# Altium schematic symbol library UCLA-DRS4.SCHLIB: 141 symbols (part 2 of 2)
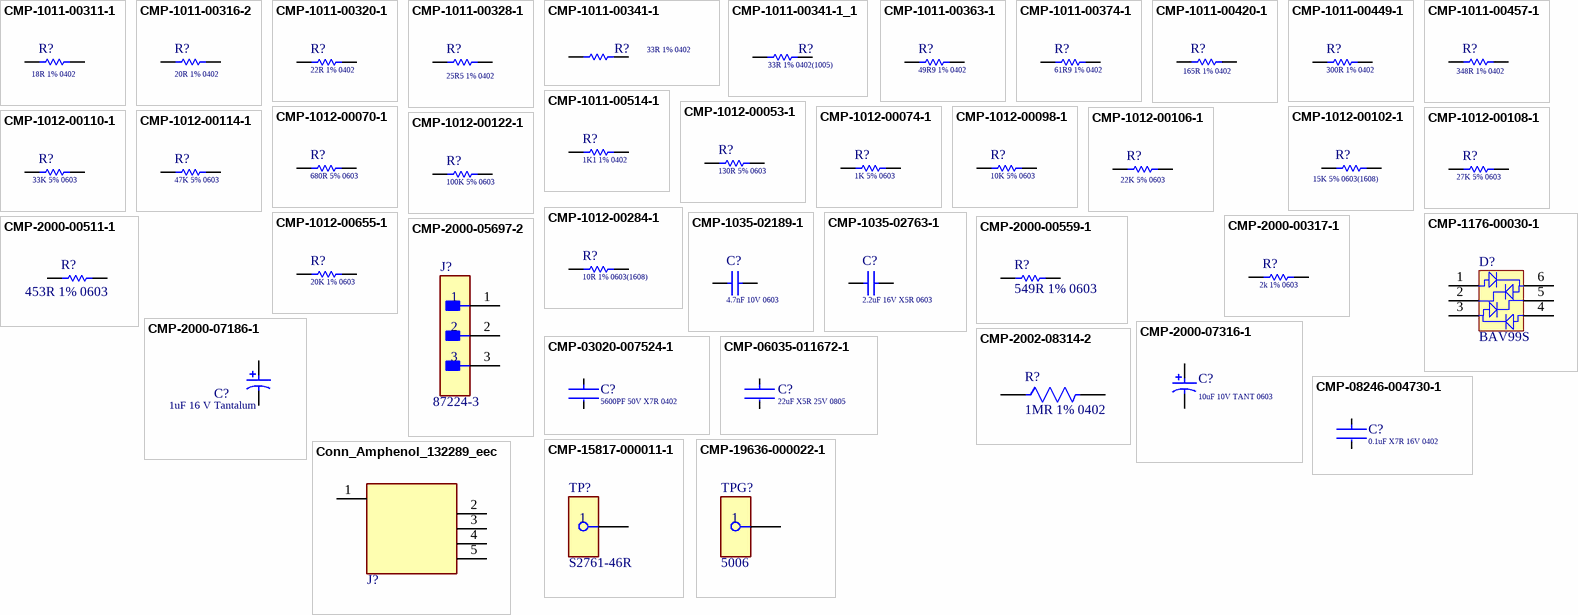
[diagram p6: symbols CMP-1011-00311-1 to Conn_Amphenol_132289_eec]

## CMP-2000-05697-2
designator J?, comment 87224-3
CONN HEADER VERT 3POS 2.54MM; Manufacturer: TE Connectivity; Number of Positions: 3; Gasket: No (Without); High Speed Serial Data Connector: No; Current Rating: 3A; Contact Post Length: 0.125inch; PCB Thickness: 1.397mm; PCB Mount Retention: Without; Connector Type: Plug; Approvals: CSA; PCB Mounting Orientation: Vertical; Pitch: 2.54mm; Mating Alignment: No (Without); Housing Color: Black; Contact Gender: Male; Length: 7.21mm; Max Operating Temperature: 105°C; Strain Relief: No (Without); Contact Material: Bronze; Row Spacing: 2.54mm; Series: AMPMODU MOD II; Board Standoff: No (Without); Package Quantity: 520; Radiation Hardening: No; Contact Protection: No (Without); Stabilizers: No (Without); Number of Rows: 1; Contact Mating Length: 8.08mm; Contact Shape: Square; Depth: 2.54mm; Contact Current Rating: 3A; Flammability Rating: UL94 V-0; Packaging: Carton; Number of Contacts: 3; Orientation: Straight; Mount: Through Hole; Keyed: No; Contact Type: Male Pin; Housing Material: Thermoplastic; High Temperature Housing: No; ELV: Compliant; Contact Plating: Gold; Termination: Through Hole; Selectively Loaded: No (Without); Lead Free: Lead Free; Min Operating Temperature: -65°C; Mating Connector Lock: No (Without); Color: Black; RoHS Compliant: Yes; Manufacturer Part Number: 87224-3
footprint FP-87224-3-MFG
pins: 1, 2, 3

## CMP-2000-07186-1
designator C?, comment 1uF 16 V Tantalum
Tantalun Capacitor, 1 uF, +/- 10%, 16 V, -55 to 125 degC, 2-Pin SMD, RoHS, Tape and Reel; Manufacturer: Kemet; Manufacturer Size Code: A; Manufacturer Part Number: T491A105K016AT; Type: Molded; Online Catalog: T491Series; Lifetime @ Temp.: 2000Hrs@85°C; Catalog Drawings: T49x,T5xxSeries_A-side1T49x,T5xxSeries_A,B-side2T49x,T5xxSeries_A,SBottom; Other Names: 399-3678-6; EDA / CAD Models: DownloadfromAcceleratedDesigns; Capacitance: 1.0µF; ESR (Equivalent Series Resistance): 10Ohm; Voltage - Rated: 16V; Product Training Modules: CapacitorBasics-TypicalUsesforCapacitorsDeratingGuidelinesforSurfaceMountTantalumCapacitors; Category: Capacitors; Lead Spacing: -; Package Description: 2-Pin Surface Mounted Device, Body 3.2 x 1.6 mm; Height - Seated (Max): 0.071"(1.80mm); Mounting Technology: SurfaceMount; Mounting Type: SurfaceMount; Standard Package: 1; Tolerance: ±10%; Datasheet Version: 06/2016; Manufacturer URL: http://www.kemet.com/; Packaging: Digi-Reel®; Family: TantalumCapacitors; Series: T491; Size / Dimension: 0.126"Lx0.063"W(3.20mmx1.60mm); Package / Case: 1206(3216Metric); Datasheet URL: http://capacitoredge.kemet.com/capedge2/DataSheet/Datasheet-T491A105K016AT.pdf?pn=T491A105K016AT; Operating Temperature: -55°C~125°C; Package Reference: 1206; Features: GeneralPurpose; Manufacturer: KEMET
footprint KEMT-T491A105K016AT_L (Molded Capacitor, 2-Leads, Body 3.40x1.80mm, IPC High Density)
footprint KEMT-T491A105K016AT_M (Molded Capacitor, 2-Leads, Body 3.40x1.80mm, IPC Low Density)
footprint KEMT-T491A105K016AT_N (Molded Capacitor, 2-Leads, Body 3.40x1.80mm, IPC Medium Density)
pins: 1, 2

## CMP-2000-07316-1
designator C?, comment 10uF 10V TANT 0603
Tantalum Capacitor, 10 uF, +/- 20%, 10 V, -55 to 125 degC, 2-Pin SMD (M), RoHS, Tape and Reel; Manufacturer: Vishay; Manufacturer Part Number: TR8M106M010C2000; Manufacturer: Vishay Sprague; Capacitance: 10µF; Featured Product: TR8SeriesMoldedMicroTan™TantalumChipCapacitors; ESR (Equivalent Series Resistance): 2Ohm; Other Names: 718-1673-6; Catalog Drawings: TR8SeriesTR8SeriesBottom; Online Catalog: MICROTAN®TR8Series; Type: Molded; Mounting Technology: SurfaceMount; Category: Capacitors; Lifetime @ Temp.: -; Package Reference: TR8-M; Size / Dimension: 0.063"Lx0.033"W(1.60mmx0.85mm); Operating Temperature: -55°C~125°C; Mounting Type: SurfaceMount; Lead Spacing: -; Tolerance: ±20%; Standard Package: 1; Datasheet URL: http://www.vishay.com/docs/40114/tr8.pdf; Package Description: 2-Pin Surface Mount Device, Body 1.6 x 0.85 mm; Height - Seated (Max): 0.035"(0.89mm); Family: TantalumCapacitors; Manufacturer Size Code: M; Voltage - Rated: 10V; Series: MICROTAN®TR8; Packaging: Digi-Reel®; Manufacturer URL: http://www.vishay.com/; Datasheet Version: 03/2016; Package / Case: 0603(1608Metric); Features: GeneralPurpose
footprint VISH-TR8-M_L (Molded Capacitor, 2-Leads, Body 1.8x1.05mm, IPC High Density)
footprint VISH-TR8-M_M (Molded Capacitor, 2-Leads, Body 1.8x1.05mm, IPC Low Density)
footprint VISH-TR8-M_N (Molded Capacitor, 2-Leads, Body 1.8x1.05mm, IPC Medium Density)
pins: 1, 2

## CMP-2002-08314-2
designator R?, comment Parameter: 1MR 1% 0402  (hidden comment: CRCW04021M00FKED)  (no BOM)
RES Thick Film, 1MΩ, 1%, 0.063W, 100ppm/°C, 0402; Manufacturer: Vishay; Power Rating: 63mW; Voltage Rating (DC): 50V; Resistance: 1MR; Min Operating Temperature: -55°C; Lead Free: Lead Free; Case Code (Imperial): 0402; Packaging: Tape and Reel; Case Code (Metric): 1005; Tolerance: 1%; Number of Terminations: 2; Features: Automotive AEC-Q200; Number of Pins: 2; Max Power Dissipation: 63mW; Height: 0.35mm; Weight: 2.3E-05oz; Package Quantity: 10; Contact Plating: Tin; Temperature Coefficient: 100ppm/°C; Radiation Hardening: No; Length: 1mm; Termination: SMD/SMT; Depth: 0.5mm; Case/Package: 0402; Voltage Rating: 50V; Composition: Thick Film; Width: 0.02inch; Max Operating Temperature: 155°C; Military Standard: Not; Manufacturer Part Number: CRCW04021M00FKED
footprint FP-CRCW0402-e3-MFG
footprint FP-CRCW0402-e3-IPC_C
footprint FP-CRCW0402-e3-IPC_B
footprint FP-CRCW0402-e3-IPC_A
pins: 1, 2

## CMP-03020-007524-1
designator C?, comment 5600PF 50V X7R 0402
CAP CER 5600PF 50V X7R 0402 / C0402C562K5RACTU; Manufacturer: Kemet; Temperature Coefficient: 15%; Tolerance: 0.1; Material: Ceramic; Value: 5,600 pF; Temperature Characteristic: X7R; Device Class L3: Ceramic Capacitors; Height: 0.55mm; Temperature: -55°C to +125°C; Package: C0402-BB; Category: Cap; ComponentLink2Description: Datasheet; Device Class L2: Capacitors; Automotive: No; Device Class L1: Passive Components; Lead Free: Yes; ComponentLink2URL: https://content.kemet.com/datasheets/KEM_C1002_X7R_SMD.pdf; Digikey Description: CAP CER 5600PF 50V X7R 0402; Temperature Range High: +125°C; RoHS: TRUE; Octopart: https://octopart.com/c0402c562k5ractu-kemet-98458; Temperature Range Low: -55°C; Ipc Land Pattern Name: CAPC10050X50; Voltage Rating: 50 V; Mouser Description: Multilayer Ceramic Capacitors MLCC - SMD/SMT 50volts 5600pF X7R 10%; Manufacturer Part Number: C0402C562K5RACTU; Capacitance: 5,600 pF
footprint FP-C0402-BB-MFG
footprint FP-C0402-BB-IPC_C
footprint FP-C0402-BB-IPC_B
footprint FP-C0402-BB-IPC_A
pins: 1, 2

## CMP-06035-011672-1
designator C?, comment Parameter: 22uF X5R 25V 0805  (hidden comment: GRT21BR61E226ME13L)
Multi-Layer Ceramic Capacitor 22uF 25V X5R ±20% 0805 Emboss T/R; Manufacturer: Murata; Mount: Surface Mount; Case/Package: 0805; Min Operating Temperature: -55°C; Thickness: 0.057inch; Max Operating Temperature: 85°C; Case Code (Imperial): 0805; Voltage Rating: 25V; Length: 0.079inch; Ratings: AEC-Q200; Case Code (Metric): 2012; Capacitance: 22uF; Width: 0.049inch; Packaging: Tape and Reel; Tolerance: 20%; Manufacturer Part Number: GRT21BR61E226ME13L
footprint FP-GRT21B-0_2-IPC_C
footprint FP-GRT21B-0_2-IPC_B
footprint FP-GRT21B-0_2-MFG
footprint FP-GRT21B-0_2-IPC_A
pins: 1, 2

## CMP-08246-004730-1
designator C?, comment Capacitance: 0.1uF X7R 16V 0402  (hidden comment: CGA2B1X7R1C104K050BC)
Cap Ceramic 100nF 16V X7R 10% Pad SMD 0402 +125°C Automotive T/R; Manufacturer: TDK; Weight: 2.3E-05oz; Thickness: 0.022inch; Length: 1mm; Max Operating Temperature: 125°C; RoHS Compliant: Yes; Voltage Rating: 16V; Voltage Rating (DC): 16V; Series: CGA; Case Code (Metric): 1005; Termination: SMD/SMT; Case/Package: 0402; Tolerance: 10%; Min Operating Temperature: -55°C; Dielectric: X7R; Mount: Surface Mount; Resistor Type: Ceramic; Height: 0.5mm; Depth: 0.5mm; Packaging: Tape and Reel; REACH SVHC: No SVHC; Lead Free: Lead Free; Case Code (Imperial): 0402; Width: 0.5mm; Package Quantity: 1; Ratings: AEC-Q200; Manufacturer Part Number: CGA2B1X7R1C104K050BC
footprint FP-CGA2B-IPC_C
footprint FP-CGA2B-IPC_B
footprint FP-CGA2B-IPC_A
footprint FP-CGA2B-MFG
pins: 1, 2

## CMP-15817-000011-1
designator TP?, comment S2761-46R
PC TEST POINT NATURAL; Manufacturer: Harwin; Body Material: Brass; Plating: Tin; Material: Copper Alloy; Mount: Surface Mount; Color: Natural; Packaging: Tape and Reel; RoHS Compliant: Yes; Manufacturer Part Number: S2761-46R
footprint FP-S2761-46R-MFG
pins: 1

## CMP-19636-000022-1
designator TPG?, comment 5006
PC TEST POINT COMPACT BLACK; Manufacturer: Keystone Electronics; Body Material: Bronze; Inside Diameter: 1.78mm; Number of Ports: 1; Hole Diameter: 1.6mm; Outside Diameter: 3.18mm; Plating: Silver; Contact Plating: Tin; Color: Black; RoHS Compliant: Yes; Flammability Rating: UL94 V-0; Contact Material: Bronze; Material: Nylon; Orientation: Straight; Package Quantity: 100; Housing Color: Black; Length: 8.89mm; Series: THM; Mount: PCB; Height: 0.35inch; Packaging: Bulk; REACH SVHC: No SVHC; Insulation Material: Nylon; Lead Free: Lead Free; Manufacturer Part Number: 5006
footprint FP-5006-MFG
pins: 1

## Conn_Amphenol_132289_eec
designator J?, comment SMA JACK 50 OHM  (value not drawn)
CONN SMA JACK 50 OHM EDGE MNT; Manufacturer: Amphenol; Part Number: 132289; helpURL: https://upverter.com/upn/revision/b04227f5d74ab481/; ComponentLink2Description: Datasheet; Temperature: -65°C to +165°C; Package: CONN_SMA_9MM52_7M92; Supplier 2: Mouser; Price: 4.87219999201; Supplier 1: Digi-Key; ComponentLink1URL: https://upverter.com/upn/revision/b04227f5d74ab481/; Supplier Part Number 2: 523-132289; Supplier Part Number 1: ACX1426-ND; ComponentLink1Description: Upverter; ComponentLink2URL: http://www.amphenolrf.com/downloads/dl/file/id/2775/product/2917/132289_customer_drawing.pdf; RoHS: TRUE; Mouser Part Number: 523-132289; Digikey Description: CONN SMA JACK 50 OHM EDGE MNT; Digikey Part Number: ACX1426-ND; Lead Free: yes; Temperature Range Low: -65°C; Temperature Range High: +165°C
footprint Amphenol_132289_0
pins: 1, 2 MNT 1, 3 MNT 2, 4 MNT 3, 5 MNT 4

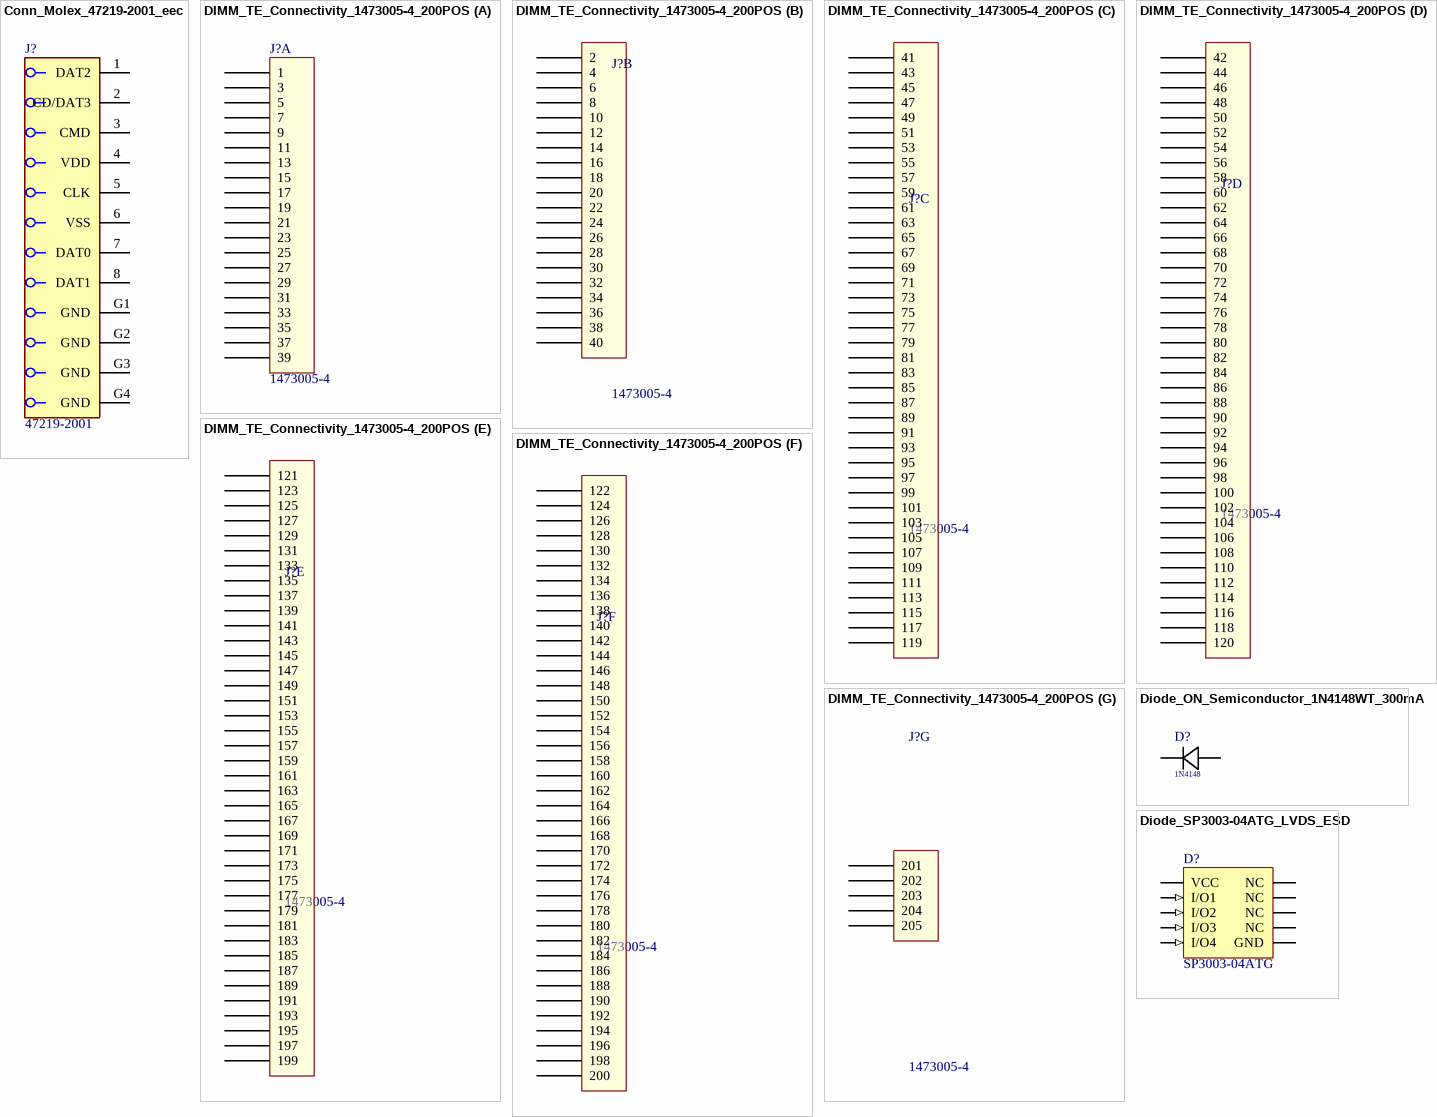
[diagram p2: symbols Conn_Molex_47219-2001_eec to Diode_SP3003-04ATG_LVDS_ESD]

## Conn_Molex_47219-2001_eec
designator J?  Part Number: 47219-2001  (hidden comment: Conn_Molex_47219-2001_eec)
CONN MICRO SD CARD HINGED TYPE; Manufacturer: Molex; Is Female: yes; helpURL: https://upverter.com/upn/revision/cf639670a30b6b80/; ComponentLink2Description: Datasheet; Temperature: -20°C to +85°C; Package: SMT_SDCARD_14MM5_13MM6; Supplier 2: Mouser; Supplier 1: Digi-Key; ComponentLink1URL: https://upverter.com/upn/revision/cf639670a30b6b80/; Supplier Part Number 2: 538-47219-2001; Supplier Part Number 1: WM6698CT-ND; ComponentLink1Description: Upverter; ComponentLink2URL: http://www.molex.com/pdm_docs/sd/472192001_sd.pdf; RoHS: TRUE; Mouser Part Number: 538-47219-2001; Temperature Range High: +85°C; Digikey Description: CONN MICRO SD CARD HINGED TYPE; Digikey Part Number: WM6698CT-ND; Lead Free: yes; Temperature Range Low: -20°C
footprint Molex_47219-2001_0
pins: 1 DAT2, 2 CD/DAT3, 3 CMD, 4 VDD (power), 5 CLK, 6 VSS (power), 7 DAT0, 8 DAT1, G1 GND (power), G2 GND (power), G3 GND (power), G4 GND (power)

## DIMM_TE_Connectivity_1473005-4_200POS
designator J?  Series: 1473005-4  (hidden comment: DIMM_TE_Connectivity_1473005-4_200POS)
DIMM Connectors DDR2 SODIMM 200P STANDARD HOUSING; Supplier 1: Mouser; Supplier Part Number 1: 571-1473005-4
footprint DIMM_TE_Connectivity_1473005-4_200POS
part A pins: 1, 3, 5, 7, 9, 11, 13, 15, 17, 19, 21, 23, 25, 27, 29, 31, 33, 35, 37, 39
part B pins: 2, 4, 6, 8, 10, 12, 14, 16, 18, 20, 22, 24, 26, 28, 30, 32, 34, 36, 38, 40
part C pins: 41, 43, 45, 47, 49, 51, 53, 55, 57, 59, 61, 63, 65, 67, 69, 71, 73, 75, 77, 79, 81, 83, 85, 87, 89, 91, 93, 95, 97, 99, 101, 103, 105, 107, 109, 111, 113, 115, 117, 119
part D pins: 42, 44, 46, 48, 50, 52, 54, 56, 58, 60, 62, 64, 66, 68, 70, 72, 74, 76, 78, 80, 82, 84, 86, 88, 90, 92, 94, 96, 98, 100, 102, 104, 106, 108, 110, 112, 114, 116, 118, 120
part E pins: 121, 123, 125, 127, 129, 131, 133, 135, 137, 139, 141, 143, 145, 147, 149, 151, 153, 155, 157, 159, 161, 163, 165, 167, 169, 171, 173, 175, 177, 179, 181, 183, 185, 187, 189, 191, 193, 195, 197, 199
part F pins: 122, 124, 126, 128, 130, 132, 134, 136, 138, 140, 142, 144, 146, 148, 150, 152, 154, 156, 158, 160, 162, 164, 166, 168, 170, 172, 174, 176, 178, 180, 182, 184, 186, 188, 190, 192, 194, 196, 198, 200
part G pins: 201, 202, 203, 204, 205

## Diode_ON_Semiconductor_1N4148WT_300mA
designator D?  Series: 1N4148  (hidden comment: Diode_ON_Semiconductor_1N4148WT_300mA)
Diodes - General Purpose, Power, Switching SINGLE JUNC. 75V 4.0NS COMP; Supplier 1: Mouser; Supplier Part Number 1: 512-1N4148WT
footprint Diode_ON_Semiconductor_1N4148WT_300mA
pins: 1, 2

## Diode_SP3003-04ATG_LVDS_ESD
designator D?  Series: SP3003-04ATG  (hidden comment: Diode_SP3003-04ATG_LVDS_ESD)
ESD Suppressors / TVS Diodes 4 Ch 8kV 0.65pF SPA; Supplier 1: Mouser; Supplier Part Number 1: 576-SP3003-04ATG
footprint Diode_SP3003-04ATG_LVDS_ESD
pins: 1 I/O1 (in), 2 I/O2 (in), 3 VCC, 4 I/O3 (in), 5 I/O4 (in), 6 NC (hiz), 7 NC (hiz), 8 GND (power), 9 NC (hiz), 10 NC (hiz)

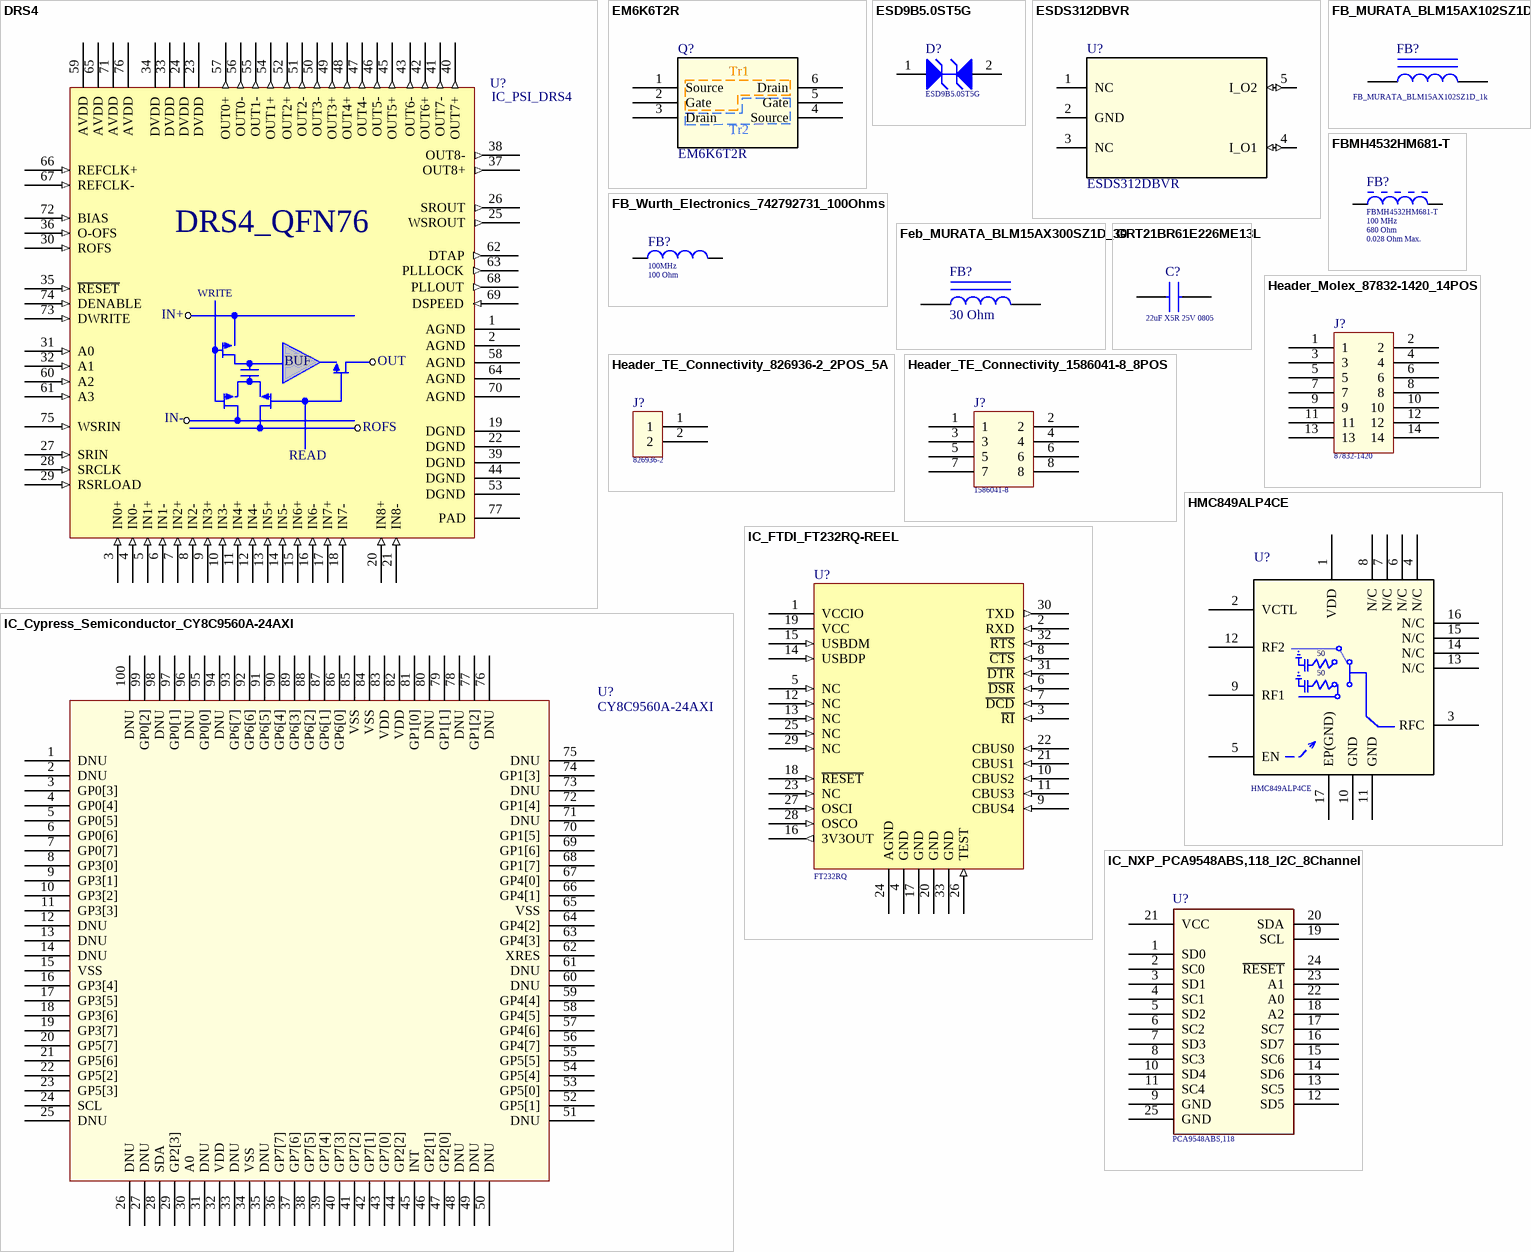
[diagram p3: symbols DRS4 to IC_NXP_PCA9548ABS,118_I2C_8Channel]

## DRS4
designator U?, comment IC_PSI_DRS4
DRS4 QFN76 DAQ Chip; Series: DRS4
footprint DRS4 (QFN, 76-Leads, Body 9.00x9.00mm, Pitch 0.40mm, Thermal Pad 5.50x5.50mm, IPC Medium Density)
pins: 1 AGND, 2 AGND, 3 IN0+ (in), 4 IN0- (in), 5 IN1+ (in), 6 IN1- (in), 7 IN2+ (in), 8 IN2- (in), 9 IN3+ (in), 10 IN3- (in), 11 IN4+ (in), 12 IN4- (in), 13 IN5+ (in), 14 IN5- (in), 15 IN6+ (in), 16 IN6- (in), 17 IN7+ (in), 18 IN7- (in), 19 DGND, 20 IN8+ (in), 21 IN8- (in), 22 DGND, 23 DVDD (power), 24 DVDD (power), 25 WSROUT (out), 26 SROUT (out), 27 SRIN (in), 28 SRCLK (in), 29 RSRLOAD (in), 30 ROFS (in), 31 A0 (in), 32 A1 (in), 33 DVDD (power), 34 DVDD (power), 35 ~{RESET} (in), 36 O-OFS (in), 37 OUT8+ (out), 38 OUT8- (out), 39 DGND, 40 OUT7+ (out), 41 OUT7- (out), 42 OUT6+ (out), 43 OUT6- (out), 44 DGND, 45 OUT5+ (out), 46 OUT5- (out), 47 OUT4- (out), 48 OUT4+ (out), 49 OUT3+ (out), 50 OUT3- (out), 51 OUT2- (out), 52 OUT2+ (out), 53 DGND, 54 OUT1+ (out), 55 OUT1- (out), 56 OUT0- (out), 57 OUT0+ (out), 58 AGND, 59 AVDD (power), 60 A2 (in), 61 A3 (in), 62 DTAP (out), 63 PLLLOCK (out), 64 AGND, 65 AVDD (power), 66 REFCLK+ (in), 67 REFCLK- (in), 68 PLLOUT (out), 69 DSPEED (in), 70 AGND, 71 AVDD (power), 72 BIAS (in), 73 DWRITE (in), 74 DENABLE (in), 75 WSRIN (in), 76 AVDD (power), 77 PAD
text: DRS4_QFN76; WRITE; IN+; BUF; OUT; IN-; READ

## EM6K6T2R
designator Q?
MOSFET Small Signal Dual N-CH 20V .3A .15W; Vendor: ROHM Semiconductor; Manufacturer_Part_Number: EM6K6T2R
footprint TRANS_EM6_ROM
pins: 1 Source, 2 Gate, 3 Drain, 4 Source, 5 Gate, 6 Drain
text: Tr1; Tr2

## ESD9B5.0ST5G
designator D?
Transient Voltage Suppressor, Micro-Packaged Diode for ESD Protection, 2-Pin SOD-923, Pb-Free, Tape and Reel; Manufacturer: On Semiconductor; Direction: Bidirectional; VRWM Max (V): 5; V(BR) Min (V): 5.8; IR Max (uA): 1; ComponentLink1Description: Manufacturer URL; ComponentLink2Description: Datasheet; PartNumber: ESD9B5.0ST5G; ComponentLink3Description: Package Specification; PackageDescription: 2-Pin SOD, Body 0.8 x 0.6 mm; ComponentLink3URL: http://www.onsemi.com/pub_link/Collateral/514AB.PDF; DatasheetVersion: Rev. 2; ComponentLink1URL: http://www.onsemi.com/; PackageReference: SOD-923-2-514AB-01; Packing: Tape and Reel; PackageVersion: Rev. C, 03/2011; Mounting Technology: Surface Mount; Number of Lines: 1; ComponentLink2URL: http://www.onsemi.cn/pub_link/Collateral/ESD9B-D.PDF; RoHS: Pb-Free; Supplier 1: Mouser; Supplier Part Number 1: 863-ESD9B5.0ST5G
footprint ONSC-SOD-923-2-514AB-01_V
pins: 1 A1, 2 A2

## ESDS312DBVR
designator U?
3.6V Data-Line Surge and 30kV ESD Protection Diode; Manufacturer: Texas Instruments; PartNumber: ESDS312DBVR; RefDes: RefDes; Type: DEV; Value: Value
footprint DBV0005A_L (SOT23, 5-Leads, Body 3.05x1.75mm, Pitch 0.95mm, IPC High Density)
pins: 1 NC, 2 GND (power), 3 NC, 4 I_O1 (io), 5 I_O2 (io)

## FB_MURATA_BLM15AX102SZ1D_1k
designator FB?
FB SMD 1000 OHM 25% 3/4W 0402; Supplier Part Number 1: 81-BLM15AX102SZ1D; Supplier 1: Mouser
footprint FB_MURATA_BLM15AX102SZ1D_1k (Feb SMD 1000 OHM 25% 3/4W 0402)
pins: 1, 2

## FB_Wurth_Electronics_742792731_100Ohms
designator FB?, comment Measuring Frequency: 100MHz  Impedance: 100 Ohm  (hidden comment: 742792731)
FB SMD 100 OHM 25% 1.2A 0402; DC Resistance: 90mOhm; Supplier 1: Mouser; Supplier Part Number 1: 710-742792731
footprint FB_Wurth_Electronics_742792731_100Ohms
pins: 1, 2

## FBMH4532HM681-T
designator FB?  Measuring Frequency: 100 MHz  Nominal Impedance: 680 Ohm  DC Resistance: 0.028 Ohm Max.  (hidden comment: FBMH4532HM681-T)
Chip Bead Inductor for Power Lines, 680 Ohm, 4 A, -40 to 125 degC, 2-Pin 4.5 x 3.2 x 3.5 mm SMD, RoHS, Taping; Manufacturer: Taiyo Yuden; Rated Current: 4 A Max.; Impedance Tolerance: +/- 25%; ComponentLink1Description: Manufacturer URL; ComponentLink2Description: Datasheet; DatasheetVersion: 09/2014; ComponentLink3URL: http://www.yuden.co.jp/productdata/catalog/en/chipbeads01_e.pdf; ComponentLink3Description: Package Specification; ComponentLink1URL: http://www.t-yuden.com/; Mounting Technology: Surface Mount; Packing: Taping; Temperature Range: -40 to 125 degC; PackageDescription: 2-Pin Surface Mount Device, Body 4.5 x 3.2 mm, Height 3.5 mm; ComponentLink2URL: http://www.yuden.co.jp/productdata/catalog/en/chipbeads01_e.pdf; RoHS: TRUE; Supplier 1: Digi-Key; Supplier Part Number 1: 587-1761-6-ND; PartNumber: FBMH4532HM681-T
footprint TAYO-FBMH4532-2_V
pins: 1 (power), 2 (power)

## Feb_MURATA_BLM15AX300SZ1D_30
designator FB?, comment 30 Ohm
Feb SMD 30 OHM 25% 3/4W 0402; Supplier 1: Mouser; Supplier Part Number 1: 81-BLM15AX300SZ1D
footprint Feb_MURATA_BLM15AX300SZ1D_30
pins: 1, 2

## GRT21BR61E226ME13L
designator C?  Parameter: 22uF X5R 25V 0805  (hidden comment: GRT21BR61E226ME13L)
Capacitor; Manufacturer_Name: Murata Electronics; Datasheet Link: https://psearch.en.murata.com/capacitor/product/GRT21BR61E226ME13%23.html; Height: 1.35mm; Manufacturer_Part_Number: GRT21BR61E226ME13L; Mouser Part Number: 81-GRT21BR61E226ME3L; Mouser Price/Stock: https://www.mouser.co.uk/ProductDetail/Murata-Electronics/GRT21BR61E226ME13L?qs=drgMNd%252BkGPNuWqerICGuZg%3D%3D; Arrow Part Number: GRT21BR61E226ME13L; Arrow Price/Stock: https://www.arrow.com/en/products/grt21br61e226me13l/murata-manufacturing
footprint CAPC2012X135N
pins: 1, 2

## Header_Molex_87832-1420_14POS
designator J?  Series: 87832-1420  (hidden comment: Header_Molex_87832-1420_14POS)
Headers & Wire Housings 14P SMD PB FREE SHRD; Supplier Part Number 1: 538-87832-1420; Supplier 1: Mouser
footprint Header_Molex_87832-1420_14POS
pins: 1, 2, 3, 4, 5, 6, 7, 8, 9, 10, 11, 12, 13, 14

## Header_TE_Connectivity_826936-2_2POS_5A
designator J?  Series: 826936-2  (hidden comment: Header_TE_Connectivity_826936-2_2POS_5A)
Headers & Wire Housings 2P SINGLE ROW 5A; Supplier Part Number 1: 571-826936-2; Supplier 1: Mouser
footprint Header_TE_Connectivity_826936-2_2POS_5A
pins: 1, 2

## Header_TE_Connectivity_1586041-8_8POS
designator J?  Series: 1586041-8  (hidden comment: Header_TE_Connectivity_1586041-8_8POS)
Headers & Wire Housings RA HDR W/O PEGS 8P; Supplier Part Number 1: 571-15860418; Supplier 1: Mouser
footprint Header_TE_Connectivity_1586041-8_8POS
pins: 1 (power), 2, 3 (power), 4, 5 (power), 6, 7 (power), 8

## HMC849ALP4CE
designator U?, comment Series: HMC849ALP4CE  (hidden comment: HMC849)
RF Switch ICs DC-6 GHZ Hi Isolation Switch; Vendor: Analog Devices Inc; Built_By: Analog Devices Imc.; Manufacturer_Part_Number: HMC849ALP4CE; RefDes: RefDes; Type: DEV; Supplier 1: Mouser; Supplier Part Number 1: 584-HMC849ALP4CE
footprint CP_16_40
pins: 1 VDD, 2 VCTL, 3 RFC, 4 N/C, 5 EN, 6 N/C, 7 N/C, 8 N/C, 9 RF1, 10 GND, 11 GND, 12 RF2, 13 N/C, 14 N/C, 15 N/C, 16 N/C, 17 EP(GND)
text: 50

## IC_Cypress_Semiconductor_CY8C9560A-24AXI
designator U?  Series: CY8C9560A-24AXI  (hidden comment: IC_Cypress_Semiconductor_CY8C9560A-24AXI)
Interface - I/O Expanders 60BIT IO EXPANDER W/EEPROM; Supplier 1: Mouser; Supplier Part Number 1: 727-CY8C9560A-24AXI
footprint IC_Cypress_Semiconductor_CY8C9560A-24AXI (Interface - I/O Expanders 60BIT IO EXPANDER W/EEPROM)
pins: 1 DNU, 2 DNU, 3 GP0[3], 4 GP0[4], 5 GP0[5], 6 GP0[6], 7 GP0[7], 8 GP3[0], 9 GP3[1], 10 GP3[2], 11 GP3[3], 12 DNU, 13 DNU, 14 DNU, 15 VSS, 16 GP3[4], 17 GP3[5], 18 GP3[6], 19 GP3[7], 20 GP5[7], 21 GP5[6], 22 GP5[2], 23 GP5[3], 24 SCL, 25 DNU, 26 DNU, 27 DNU, 28 SDA, 29 GP2[3], 30 A0, 31 DNU, 32 VDD, 33 DNU, 34 VSS, 35 DNU, 36 GP7[7], 37 GP7[6], 38 GP7[5], 39 GP7[4], 40 GP7[3], 41 GP7[2], 42 GP7[1], 43 GP7[0], 44 GP2[2], 45 INT, 46 GP2[1], 47 GP2[0], 48 DNU, 49 DNU, 50 DNU, 51 DNU, 52 GP5[1], 53 GP5[0], 54 GP5[4], 55 GP5[5], 56 GP4[7], 57 GP4[6], 58 GP4[5], 59 GP4[4], 60 DNU, 61 DNU, 62 XRES, 63 GP4[3], 64 GP4[2], 65 VSS, 66 GP4[1], 67 GP4[0], 68 GP1[7], 69 GP1[6], 70 GP1[5], 71 DNU, 72 GP1[4], 73 DNU, 74 GP1[3], 75 DNU, 76 DNU, 77 GP1[2], 78 DNU, 79 GP1[1], 80 DNU, 81 GP1[0], 82 VDD, 83 VDD, 84 VSS, 85 VSS, 86 GP6[0], 87 GP6[1], 88 GP6[2], 89 GP6[3], 90 GP6[4], 91 GP6[5], 92 GP6[6], 93 GP6[7], 94 DNU, 95 GP0[0], 96 DNU, 97 GP0[1], 98 DNU, 99 GP0[2], 100 DNU

## IC_FTDI_FT232RQ-REEL
designator U?  Series: FT232RQ  (hidden comment: IC_FTDI_FT232RQ-REEL)
USB Interface IC USB to Serial UART Enhanced IC QFN-32; Supplier 1: Mouser; Supplier Part Number 1: 895-FT232RQ
footprint IC_FTDI_FT232RQ-REEL
pins: 1 VCCIO (power), 2 RXD (in), 3 ~{RI} (in), 4 GND (power), 5 NC (in), 6 ~{DSR} (in), 7 ~{DCD} (in), 8 ~{CTS} (in), 9 CBUS4 (in), 10 CBUS2 (in), 11 CBUS3 (in), 12 NC (in), 13 NC (in), 14 USBDP (in), 15 USBDM (in), 16 3V3OUT (out), 17 GND (power), 18 ~{RESET} (in), 19 VCC (power), 20 GND (power), 21 CBUS1 (in), 22 CBUS0 (in), 23 NC (in), 24 AGND (power), 25 NC (in), 26 TEST (in), 27 OSCI (in), 28 OSCO (in), 29 NC (in), 30 TXD (out), 31 ~{DTR} (in), 32 ~{RTS} (in), 33 GND (power)

## IC_NXP_PCA9548ABS,118_I2C_8Channel
designator U?  Series: PCA9548ABS,118  (hidden comment: IC_NXP_PCA9548ABS,118_I2C_8Channel)
Multiplexer Switch ICs 8CH I2C SWTCH W/REST; Supplier Part Number 1: 771-PCA9548ABS118; Supplier 1: Mouser
footprint IC_NXP_PCA9548ABS,118_I2C_8Channel
pins: 1 SD0, 2 SC0, 3 SD1, 4 SC1, 5 SD2, 6 SC2, 7 SD3, 8 SC3, 9 GND, 10 SD4, 11 SC4, 12 SD5, 13 SC5, 14 SD6, 15 SC6, 16 SD7, 17 SC7, 18 A2, 19 SCL, 20 SDA, 21 VCC, 22 A0, 23 A1, 24 ~{RESET}, 25 GND

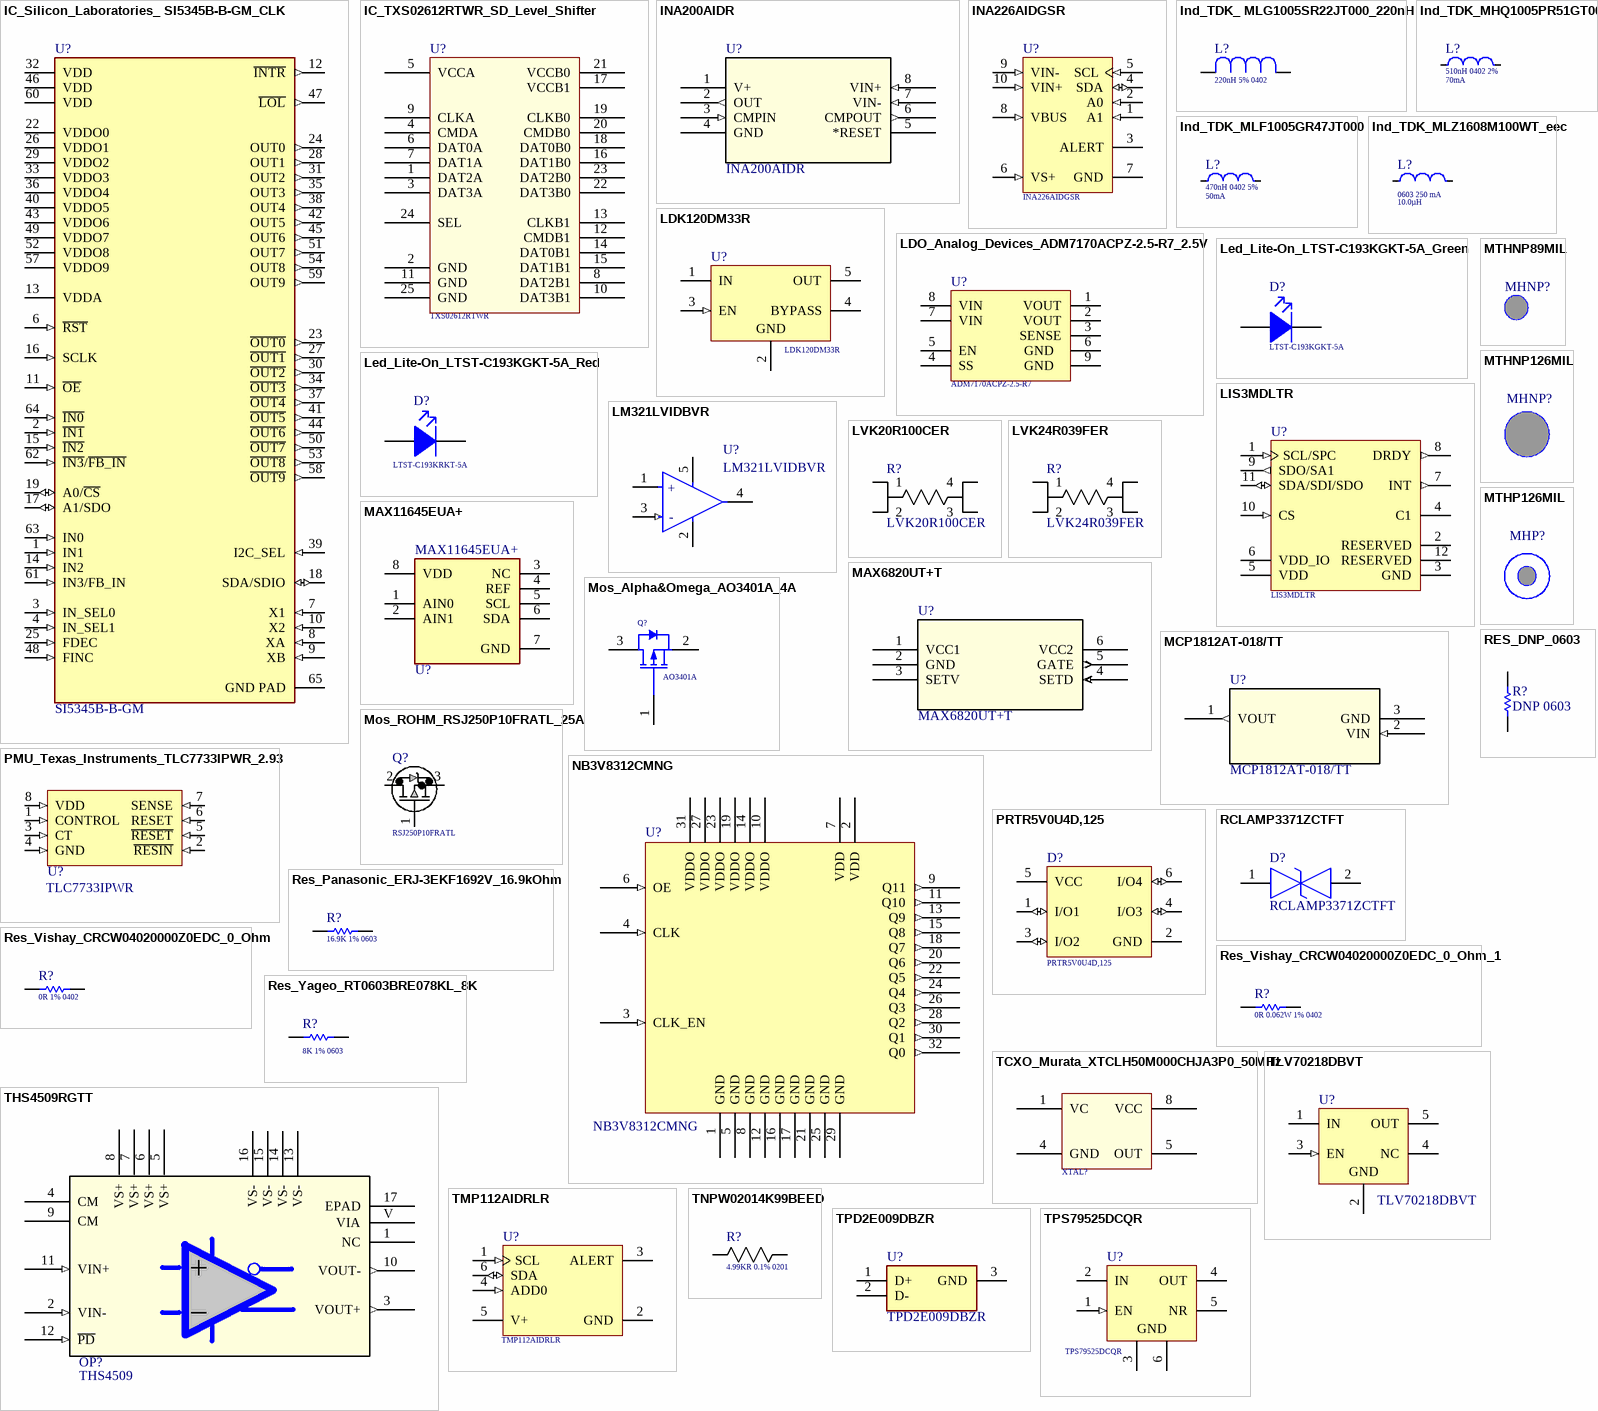
[diagram p4: symbols IC_Silicon_Laboratories_ SI5345B-B-GM_CLK to TPS79525DCQR]

## IC_Silicon_Laboratories_ SI5345B-B-GM_CLK
designator U?, comment SI5345B-B-GM
Clock Synthesizer / Jitter Cleaner Low-jitter, 10-output, any frequency (< 350 MHz), any output jitter attenuator; Supplier 1: Mouser; Supplier Part Number 1: 634-SI5345B-B-GM; Series: SI5345B-B-GM
footprint Si5345
pins: 1 IN1 (in), 2 ~{IN1} (in), 3 IN_SEL0 (in), 4 IN_SEL1 (in), 6 ~{RST} (in), 7 X1 (in), 8 XA (in), 9 XB (in), 10 X2 (in), 11 ~{OE} (in), 12 ~{INTR} (out), 13 VDDA (power), 14 IN2 (in), 15 ~{IN2} (in), 16 SCLK (in), 17 A1/SDO (io), 18 SDA/SDIO (io), 19 A0/~{CS} (io), 22 VDDO0 (power), 23 ~{OUT0} (out), 24 OUT0 (out), 25 FDEC (in), 26 VDDO1 (power), 27 ~{OUT1} (out), 28 OUT1 (out), 29 VDDO2 (power), 30 ~{OUT2} (out), 31 OUT2 (out), 32 VDD (power), 33 VDDO3 (power), 34 ~{OUT3} (out), 35 OUT3 (out), 36 VDDO4 (power), 37 ~{OUT4} (out), 38 OUT4 (out), 39 I2C_SEL (in), 40 VDDO5 (power), 41 ~{OUT5} (out), 42 OUT5 (out), 43 VDDO6 (power), 44 ~{OUT6} (out), 45 OUT6 (out), 46 VDD (power), 47 ~{LOL} (out), 48 FINC (in), 49 VDDO7 (power), 50 ~{OUT7} (out), 51 OUT7 (out), 52 VDDO8 (power), 53 ~{OUT8} (out), 54 OUT8 (out), 57 VDDO9 (power), 58 ~{OUT9} (out), 59 OUT9 (out), 60 VDD (power), 61 IN3/FB_IN (in), 62 ~{IN3}/~{FB_IN} (in), 63 IN0 (in), 64 ~{IN0} (in), 65 GND PAD (power)

## IC_TXS02612RTWR_SD_Level_Shifter
designator U?  Series: TXS02612RTWR  (hidden comment: IC_TXS02612RTWR_SD_Level_Shifter)
Interface - I/O Expanders SDIO Port Expander; Supplier Part Number 1: 595-TXS02612RTWR; Supplier 1: Mouser
footprint IC_TXS02612RTWR_SD_Level_Shifter
pins: 1 DAT2A, 2 GND, 3 DAT3A, 4 CMDA, 5 VCCA, 6 DAT0A, 7 DAT1A, 8 DAT2B1, 9 CLKA, 10 DAT3B1, 11 GND, 12 CMDB1, 13 CLKB1, 14 DAT0B1, 15 DAT1B1, 16 DAT1B0, 17 VCCB1, 18 DAT0B0, 19 CLKB0, 20 CMDB0, 21 VCCB0, 22 DAT3B0, 23 DAT2B0, 24 SEL, 25 GND

## INA200AIDR
designator U?
High-Side Measurement Current-Shunt Monitor with Comparator and Reference; Manufacturer: Texas Instruments; GENERIC_PART_NUMBER: INA200; INDUSTRY_STD_PKG_TYPE: SOIC; FAMILY_NAME: CURRENT SHUNT MONITOR; PIN_COUNT: 8; PACKAGE_DESIGNATOR: D; Datasheet_URL: http://www.ti.com/lit/gpn/INA200; Vendor: Texas Instruments; Manufacturer_Part_Number: INA200AIDR; Copyright: Copyright (C) 2018 Accelerated Designs. All rights reserved; RefDes: RefDes; Type: DEV
footprint D8
pins: 1 V+ (power), 2 OUT (out), 3 CMPIN (in), 4 GND (power), 5 *RESET, 6 CMPOUT (out), 7 VIN- (in), 8 VIN+ (in)

## INA226AIDGSR
designator U?
Current & Power Monitors & Regulators Hi-Side Msmt,Bi-Dir Current/Pwr Mon; Supplier 1: Mouser; Supplier Part Number 1: 595-INA226AIDGSR
footprint INA226AIDGSR (Current & Power Monitors & Regulators Hi-Side Msmt,Bi-Dir Current/Pwr Mon)
pins: 1 A1 (in) "Address pin. Connect to GND, SCL, SDA, or VS.", 2 A0 (in) "Address pin. Connect to GND, SCL, SDA, or VS.", 3 ALERT (oc) "Multi-functional alert, open-drain output.", 4 SDA (io) "Serial bus data line, open-drain input/output.", 5 SCL (in) "Serial bus clock line, open-drain input.", 6 VS+ (in) "Power supply, 2.7V to 5.5V.", 7 GND (power) "Ground.", 8 VBUS (in) "Bus voltage input.", 9 VIN- (in) "Negative differential shunt voltage. Connect to negative side of shunt resistor.", 10 VIN+ (in) "Positive differential shunt voltage. Connect to positive side of shunt resistor."

## Ind_TDK_ MLG1005SR22JT000_220nH
designator L?  Inductance: 220nH 5% 0402  (hidden comment: Ind_TDK_ MLG1005SR22JT000_220nH)
Fixed Inductors .22 UH 5%; Supplier 1: Mouser; Supplier Part Number 1: 810-MLG1005SR22JT000
footprint Ind_TDK_ MLG1005SR22JT000_220nH
pins: 1, 2

## Ind_TDK_MHQ1005PR51GT000
designator L?, comment 510nH 0402 2%  Current Rating: 70mA
IND 510nH Shielded Multilayer Inductor 70mA 10.2 Ohm Max 0402 (1005 Metric); Part Number: MHQ1005PR51GT000; Manufacturer: TDK; Value: 510.0nH; DC Resistance (DCR): 10.2Ohms; ComponentLink2Description: Datasheet; Temperature: -55°C to +125°C; ComponentLink2URL: https://product.tdk.com/info/en/catalog/datasheets/inductor_commercial_decoupling_mlz1608_en.pdf; RoHS: TRUE; Temperature Range High: +125°C; Lead Free: yes; Temperature Range Low: -55°C; Tolerance: ±2%; Package: 0402 (1005); Inductance: 510nH; Supplier Part Number 1: 810-MHQ1005PR51GT000; Supplier 1: Mouser
footprint TDK_MHQ1005PR51GT000_0
pins: 1, 2

## Ind_TDK_MLF1005GR47JT000
designator L?, comment 470nH 0402 5%  Current Rating: 50mA
IND 470nH Shielded Multilayer Inductor 50mA 420 mOhm Max 0402 (1005 Metric); Part Number: MLF1005GR47JT000; Manufacturer: TDK; Value: 270.0nH; DC Resistance (DCR): 420mOhms; ComponentLink2Description: Datasheet; Temperature: -55°C to +125°C; ComponentLink2URL: https://product.tdk.com/info/en/catalog/datasheets/inductor_commercial_decoupling_mlz1608_en.pdf; RoHS: TRUE; Temperature Range High: +125°C; Lead Free: yes; Temperature Range Low: -55°C; Tolerance: ±5%; Package: 0402 (1005); Inductance: 470nH; Supplier 1: Mouser; Supplier Part Number 1: 810-MLF1005GR47JT000
footprint TDK_MLF1005GR47JT000_0
pins: 1, 2

## Ind_TDK_MLZ1608M100WT_eec
designator L?, comment 0603 250 mA  Inductance: 10.0µH
IND 10µH Shielded Multilayer Inductor 250mA 1.365 Ohm Max 0603 (1608 Metric); Part Number: MLZ1608M100WT; Manufacturer: TDK; Value: 10.0µH; Tolerance: ±20%; helpURL: https://upverter.com/upn/revision/22fa022ced0eb0ec/; ComponentLink2Description: Datasheet; Temperature: -55°C to +125°C; Package: 0603 (1608 metric); Supplier 2: Mouser; Supplier 1: Digi-Key; ComponentLink1URL: https://upverter.com/upn/revision/22fa022ced0eb0ec/; Supplier Part Number 2: 810-MLZ1608M100WT000; Supplier Part Number 1: 445-6389-1-ND; ComponentLink1Description: Upverter; ComponentLink2URL: https://product.tdk.com/info/en/catalog/datasheets/inductor_commercial_decoupling_mlz1608_en.pdf; RoHS: TRUE; Mouser Part Number: 810-MLZ1608M100WT000; Current Rating: 250mA; Ipc Land Pattern Name: CAPC16080X45; Temperature Range High: +125°C; Digikey Description: IND 10µH Shielded Multilayer Inductor 250mA 1.365 Ohm Max 0603 (1608 Metric); Digikey Part Number: 445-6389-1-ND; Lead Free: yes; Temperature Range Low: -55°C; DC Resistance (DCR): 1.365 Ohm Max
footprint TDK_MLZ1608M100WT_0
pins: 1, 2

## LDK120DM33R
designator U?
LDO Voltage Regulators 200 mA low quiescent current very low noise LDO; Supplier 1: Mouser; Supplier Part Number 1: 511-LDK120DM33R
footprint DBV0005A_L (SOT23, 5-Leads, Body 3.05x1.75mm, Pitch 0.95mm, IPC High Density)
footprint DBV0005A_M (SOT23, 5-Leads, Body 3.05x1.75mm, Pitch 0.95mm, IPC Low Density)
footprint DBV0005A_N (SOT23, 5-Leads, Body 3.05x1.75mm, Pitch 0.95mm, IPC Medium Density)
pins: 1 IN (power) "Input to the device", 2 GND (power) "Regulator ground", 3 EN (in) "Enable input that enables or shuts down the device. When EN goes to a logic high, the device is enabled. When the device goes to a logic low, the devices is in shutdown mode.", 4 BYPASS "An external bypass capacitor, connected to this terminal, in conjunction with an internal resistor, creates a low-pass filter to further reduce regulator noise.", 5 OUT (power) "Regulated output of the device"

## LDO_Analog_Devices_ADM7170ACPZ-2.5-R7_2.5V
designator U?  Series: ADM7170ACPZ-2.5-R7  (hidden comment: LDO_Analog_Devices_ADM7170ACPZ-2.5-R7_2.5V)
LDO Voltage Regulators 0.5A Hi PSRR FT LDO 2.5V; Supplier Part Number 1: 584-ADM7170ACPZ2.5R7; Supplier 1: Mouser
footprint LDO_Analog_Devices_ADM7170ACPZ-2.5-R7_2.5V
pins: 1 VOUT (power) "Output Voltage.", 2 VOUT (power) "Output Voltage.", 3 SENSE (power) "Output Voltage.", 4 SS (power) "Input Voltage Connection.", 5 EN (power) "Input Voltage Connection.", 6 GND (power) "Ground.", 7 VIN (power) "Input Voltage Connection.", 8 VIN (power) "Input Voltage Connection.", 9 GND (power) "Ground."

## Led_Lite-On_LTST-C193KGKT-5A_Green
designator D?  Series: LTST-C193KGKT-5A  (hidden comment: Led_Lite-On_LTST-C193KGKT-5A_Green)
Standard LEDs - SMD Green 470nm 28mcd 20mA; Supplier 1: Mouser; Supplier Part Number 1: 859-LTSTC193KGKT5A
footprint Led_Lite-On_LTST-C193KGKT-5A_Green
pins: 1 K, 2 A

## Led_Lite-On_LTST-C193KGKT-5A_Red
designator D?, comment LTST-C193KRKT-5A
Standard LEDs - SMD Red 470nm 28mcd 20mA; Supplier 1: Mouser; Supplier Part Number 1: 859-LTSTC193KRKT5A; Series: LTST-C193KRKT-5A
footprint Led_Lite-On_LTST-C193KGKT-5A_Red
pins: 1 K, 2 A

## LIS3MDLTR
designator U?
Board Mount Hall Effect / Magnetic Sensors Ultra Lo-Pwr Hi Perf 3-Axis 1.9-3.6V; Supplier 1: Mouser; Supplier Part Number 1: 511-LIS3MDLTR
footprint LIS3MDLTR (Board Mount Hall Effect / Magnetic Sensors Ultra Lo-Pwr Hi Perf 3-Axis 1.9-3.6V)
pins: 1 SCL/SPC (in), 2 RESERVED "Connect to GND", 3 GND (power) "Connect to GND", 4 C1 "Capacitor connection (C1=100 nF)", 5 VDD (power) "Power supply", 6 VDD_IO (power) "Power supply for I/O pins", 7 INT (out) "Interrupt", 8 DRDY (out) "Data Ready", 9 SDO/SA1 (out), 10 CS (in) "SPI enable,I2C/SPI mode selection,(1: SPI idle mode / I2C communication enabled;0: SPI communication mode / I2C disabled)", 11 SDA/SDI/SDO (io), 12 RESERVED "Connect to GND"

## LM321LVIDBVR
designator U?
IC OPAMP GP 1 CIRCUIT SOT23-5; Part Number: LM321LVIDBVR; Supplier 1: Mouser; Supplier Part Number 1: 595-LM321LVIDBVR
footprint Texas_Instruments_LM321LVIDBVR_MFG
pins: 1 IN+, 2 V- (power), 3 IN- (in), 4 OUT, 5 V+ (power)
text: +; -

## LVK20R100CER
designator R?
Current Sense Resistors - SMD .1 OHM.25% 3/4W; Vendor: Ohmite; Built_By: EMA_UL_Team; SourceLibrary: Ohmite_2014-12-31; Manufacturer_Part_Number: LVK20R100CER; Copyright: Copyright (C) 2018 Accelerated Designs. All rights reserved; RefDes: RefDes; Type: DEV
footprint OH_LVK20_OHM
pins: 1 (power), 2, 3, 4 (power)

## LVK24R039FER
designator R?
RES 0.039 OHM 1% 1W 2412; Vendor: Ohmite; Built_By: EMA_UL_Team; SourceLibrary: Ohmite_2014-12-31; Manufacturer_Part_Number: LVK24R039FER; Copyright: Copyright (C) 2018 Accelerated Designs. All rights reserved; RefDes: RefDes; Type: DEV
footprint OH_LVK24_OHM
pins: 1, 2 (power), 3 (power), 4

## MAX6820UT+T
designator U?
No Description Available; Vendor: Maxim Integrated Products; Built_By: EMA_UL_Team; SourceLibrary: Maxim_2014-06-20; Manufacturer_Part_Number: MAX6820UT+T; Revision: 1; Copyright: Copyright (C) 2018 Accelerated Designs. All rights reserved; RefDes: RefDes; Type: DEV
footprint 21-0058I_MXM
pins: 1 VCC1 (power), 2 GND (power), 3 SETV, 4 SETD (in), 5 GATE (out), 6 VCC2 (power)

## MAX11645EUA+
designator U?
Part Number: MAX11645EUA+; ComponentLink1Description: helpURL; ComponentLink1URL: https://www.maximintegrated.com/en/products/analog/data-converters/analog-to-digital-converters/MAX11645.html; Supplier 1: Mouser; Supplier Part Number 1: https://www.mouser.com/ProductDetail/Maxim-Integrated/MAX11645EUA%2B?qs=Bakm8ERcljromEtBj8vNxg%3D%3D
footprint Maxim_Electronics_8-uMAX_0
pins: 1 AIN0, 2 AIN1, 3 NC, 4 REF, 5 SCL, 6 SDA, 7 GND, 8 VDD

## MCP1812AT-018/TT
designator U?
LDO Voltage Regulators 1.8V 3-Lead SOT-23 300mA Ultra Low Iq LDO with Auto-Discharge; Vendor: Microchip; Built_By: EMA_Cory; SourceLibrary: Microchip_2020-03-04; Datasheet: http://ww1.microchip.com/downloads/en/DeviceDoc/MCP1811A-11B-12A-12B-Data-Sheet-20006088B.pdf; Manufacturer_Part_Number: MCP1812AT-018/TT; Copyright: Copyright (C) 2018 Accelerated Designs. All rights reserved; RefDes: RefDes; Type: DEV
footprint SOT23_TT_MCH
pins: 1 VOUT (out), 2 VIN (in), 3 GND

## Mos_Alpha&Omega_AO3401A_4A
designator Q?  Series: AO3401A  (hidden comment: Mos_Alpha&Omega_AO3401A_4A)
P-Channel 30V 4A (Ta) 1.4W (Ta) Surface Mount SOT-23-3L; Supplier 1: Digi-key; Supplier Part Number 1: 785-1001-1-ND
footprint Mos_Alpha&Omega_AO3401A_4A (P-Channel 30V 4A (Ta) 1.4W (Ta) Surface Mount SOT-23-3L)
pins: 1 G, 2 S, 3 D

## Mos_ROHM_RSJ250P10FRATL_25A
designator Q?  Series: RSJ250P10FRATL  (hidden comment: Mos_ROHM_RSJ250P10FRATL_25A)
MOSFET Pch -100V Vds -25A 0.05Rds(on) 60Qg; Supplier Part Number 1: 755-RSJ250P10FRATL; Supplier 1: Mouser
footprint Mos_ROHM_RSJ250P10FRATL_25A
pins: 1 G, 2 D, 3 S

## MTHNP89MIL
designator MHNP?, comment Mounting Hole Non-plated 89mil with 160mil Standoff  (value not drawn)
Non-plated Mounting Hole with 89mil Diameter Hole and 160mil Diameter for Standoff
footprint MTHNP89MIL (Mounting Hole Non-plated 89mil with 160mil Standoff)

## MTHNP126MIL
designator MHNP?, comment Mounting Hole Non-plated 126mil with 300mil Standoff  (value not drawn)
Non-plated Mounting Hole with 126mil Diameter Hole and 300mil Diameter for Standoff
footprint MTHNP126MIL (Mounting Hole Non-plated 126mil with 300mil Standoff)

## MTHP126MIL
designator MHP?, comment Mounting Hole Plated 126mil with 300mil Standoff  (value not drawn)
Plated Mounting Hole with 126mil Diameter Hole and 300mil Diameter for Standoff
footprint MTHP126MIL (Mounting Hole Plated 126mil with 300mil Standoff)

## NB3V8312CMNG
designator U?
Clock Fanout Buffer (Distribution) IC 1:12 250 MHz 32-VFQFN Exposed Pad; Supplier 1: Digi-Key; Supplier Part Number 1: NB3V8312CMNGOS-ND; Series: NB3V8312CMNG
footprint QFN32_5X5_ONS
pins: 1 GND, 2 VDD (power), 3 CLK_EN (in), 4 CLK (in), 5 GND, 6 OE (in), 7 VDD (power), 8 GND, 9 Q11 (out), 10 VDDO (power), 11 Q10 (out), 12 GND, 13 Q9 (out), 14 VDDO (power), 15 Q8 (out), 16 GND, 17 GND, 18 Q7 (out), 19 VDDO (power), 20 Q6 (out), 21 GND, 22 Q5 (out), 23 VDDO (power), 24 Q4 (out), 25 GND, 26 Q3 (out), 27 VDDO (power), 28 Q2 (out), 29 GND, 30 Q1 (out), 31 VDDO (power), 32 Q0 (out)

## PMU_Texas_Instruments_TLC7733IPWR_2.93
designator U?, comment TLC7733IPWR
Supervisory Circuits 2.93V Monitor; Manufacturer 1: Texas Instruments; Manufacturer Part Number 1: TLC7733IPWR; Supplier 1: Mouser; Supplier Part Number 1: 595-TLC7733IPWR
footprint PMU_Texas_Instruments_TLC7733IPWR_2.93
pins: 1 CONTROL (in), 2 ~{RESIN} (in), 3 CT (in), 4 GND (in), 5 ~{RESET} (in), 6 RESET (in), 7 SENSE (in), 8 VDD (in)

## PRTR5V0U4D,125
designator D?
ESD Suppressors / TVS Diodes 5.5V QUAD R-R ESD ULTRA LOW CAP; Supplier 1: Mouser; Supplier Part Number 1: 771-PRTR5V0U4D-T/R
footprint PRTR5V0U4D,125 (ESD Suppressors / TVS Diodes 5.5V QUAD R-R ESD ULTRA LOW CAP)
pins: 1 I/O1 (io) "input/output 1", 2 GND (power) "ground", 3 I/O2 (io) "input/output 1", 4 I/O3 (io) "input/output 2", 5 VCC (power) "supply voltage", 6 I/O4 (io) "input/output 2"

## RCLAMP3371ZCTFT
designator D?
TVS Diode (Bi-directional); Manufacturer_Name: SEMTECH; Datasheet Link: https://www.mouser.com/datasheet/2/761/RClamp3371ZC-1626951.pdf; Height: 0.265mm; Manufacturer_Part_Number: RCLAMP3371ZCTFT; Mouser Part Number: 947-RCLAMP3371ZCTFT; Mouser Price/Stock: https://www.mouser.co.uk/ProductDetail/Semtech/RCLAMP3371ZCTFT?qs=55YtniHzbhAJYX2KWxFhdA%3D%3D; Arrow Part Number: RCLAMP3371ZCTFT; Arrow Price/Stock: https://www.arrow.com/en/products/rclamp3371zctft/semtech?region=nac
footprint RCLAMP3371ZCTFT
pins: 1, 2

## RES_DNP_0603
designator R?  Resistance: DNP 0603  (hidden comment: RES_DNP_0603)
0603 Do not place resistor
footprint RES_DNP_0603
pins: 1, 2

## Res_Panasonic_ERJ-3EKF1692V_16.9kOhm
designator R?  Resistance: 16.9K 1% 0603  (hidden comment: Res_Panasonic_ERJ-3EKF1692V_16.9kOhm)
RES SMD 16.9k OHM 5% 1/10W 0603; Supplier 1: Mouser; Supplier Part Number 1: 667-ERJ-3EKF1692V
footprint Res_Panasonic_ERJ-3EKF1692V_16.9kOhm
pins: 1, 2

## Res_Vishay_CRCW04020000Z0EDC_0_Ohm
designator R?  Resistance: 0R 1% 0402  (hidden comment: Res_Vishay_CRCW04020000Z0EDC_0_Ohm)
0R 0.062W 1% 0402 (1005 Metric)  SMD; Supplier 1: Mouser; Supplier Part Number 1: 71-CRCW04020000Z0EDC
footprint Res_Vishay_CRCW04020000Z0EDC_0_Ohm
pins: 1, 2

## Res_Vishay_CRCW04020000Z0EDC_0_Ohm_1
designator R?, comment 0R 0.062W 1% 0402
0R 0.062W 1% 0402 (1005 Metric)  SMD; Resistance: 0R 1% 0402; Supplier 1: Mouser; Supplier Part Number 1: 71-CRCW04020000Z0EDC
footprint Res_Vishay_CRCW04020000Z0EDC_0_Ohm
pins: 1, 2

## Res_Yageo_RT0603BRE078KL_8K
designator R?, comment 8K 1% 0603
8K 0.1W 1% 0603 (1608 Metric)  SMD; Supplier 1: Mouser; Supplier Part Number 1: 603-RT0603BRE078KL
footprint Res_Yageo_RT0603BRE078KL_8K
pins: 1, 2

## TCXO_Murata_XTCLH50M000CHJA3P0_50MHz
designator XTAL?  (value not drawn)
TCXO Oscillators 50MHz 5x3.2x1.5mm 0.2ppm max Crystal; Supplier 1: Mouser; Supplier Part Number 1: 81-XTCLH50M000CHJA3P; Supplier 2: Digi-Key; Supplier Part Number 2: 490-18042-1-ND
footprint TCXO_Murata_XTCLH50M000CHJA3P0_50MHz (TCXO Oscillators 50MHz 5x3.2x1.5mm 0.28ppm max Crystal)
pins: 1 VC, 4 GND, 5 OUT, 8 VCC

## THS4509RGTT
designator OP?, comment THS4509
Differential Amplifier 1 Circuit Differential 16-QFN (3x3); Manufacturer_Part_Number: THS4509RGTT; Vendor: Texas Instruments; Built_By: EMA_UL_Team; C: Copyright (C) 2015 Accelerated Designs. All rights reserved; RefDes: RefDes; Type: DEV; Value: Value; Supplier 1: Mouser; Supplier Part Number 1: 595-THS4509RGTT
footprint RGT16
pins: 1 NC, 2 VIN- (in), 3 VOUT+ (out), 4 CM, 5 VS+ (power), 6 VS+ (power), 7 VS+ (power), 8 VS+ (power), 9 CM, 10 VOUT- (out), 11 VIN+ (in), 12 ~{PD} (in), 13 VS- (power), 14 VS- (power), 15 VS- (power), 16 VS- (power), 17 EPAD, V VIA

## TLV70218DBVT
designator U?
Single Output LDO, 300 mA, Fixed 1.8 V Output, 2 to 5.5 V Input, with Low IQ, 5-pin SOT-23 (DBV), -40 to 125 degC, Green (RoHS & no Sb/Br); Manufacturer: Texas Instruments; Accuracy(%): 2; Iq(Typ)(mA): 0.03; Vout Adj(Min)(V): 1.8; SubFamily: Single Channel LDO; Vin(Max)(V): 5.5; Iout(Max)(A): 0.3; Vdo(Typ)(mV): 220; Vin(Min)(V): 2; Eco-Plan: Green (RoHS & no Sb/Br); PartNumber: TLV70218DBVT; ComponentLink1Description: Manufacturer URL; ComponentLink2Description: Datasheet; DatasheetVersion: SLVSAG6B; ComponentLink3URL: http://www.ti.com/litv/pdf/mpds018i; Vout Adj(Max)(V): 1.8; ComponentLink1URL: http://www.ti.com/; Fixed Output Options(V): 1.8; Code_JEDEC: MO-178; ComponentLink2URL: http://www.ti.com/general/docs/lit/getliterature.tsp?genericPartNumber=TLV70218&fileType=pdf; ComponentLink3Description: Package Specification; PackageVersion: 4073253-4/K; Mounting Technology: Surface Mount; PackageReference: DBV5; PackageDescription: 5-Pin Plastic Small Outline, Body 1.60 Ãƒâ€” 2.90 mm, Pitch 0.95 mm
footprint TI-DBV5_N (SOT23, 5-Leads, Body 2.9x1.6mm, Pitch 0.95mm, IPC Medium Density)
pins: 1 IN (power) "Input supply voltage", 2 GND (power) "Ground", 3 EN (in) "Enable input", 4 NC "No connected", 5 OUT (power) "Regulated output voltage"

## TMP112AIDRLR
designator U?
Board Mount Temperature Sensors Hi-Prec Lo-Pwr Dig Temp Sensor; Supplier 1: Mouser; Supplier Part Number 1: 595-TMP112AIDRLR
footprint TMP112AIDRLR (Board Mount Temperature Sensors Hi-Prec Lo-Pwr Dig Temp Sensor)
pins: 1 SCL (in) "Serial clock. Open-drain output; requires a pullup resistor.", 2 GND (power) "Ground", 3 ALERT (oc) "Overtemperature alert. Open-drain output; requires a pullup resistor.", 4 ADD0 (in) "Address select. Connect to GND or V+", 5 V+ (power) "Supply voltage, 1.4 V to 3.6 V", 6 SDA (io) "Serial data. Open-drain output; requires a pullup resistor."

## TNPW02014K99BEED
designator R?  Parameter: 4.99KR 0.1% 0201  (hidden comment: TNPW02014K99BEED)
No Description Available; Mfr_Name: Vishay; Copyright: Copyright (C) 2022 Ultra Librarian. All rights reserved.; Manufacturer_Part_Number: TNPW02014K99BEED; Digi-Key_Part_Number_1: 541-TNPW02014K99BEEDTR-ND; Digi-Key_Part_Number_2: 541-TNPW02014K99BEEDCT-ND; RefDes: RefDes; Type: DEV
footprint RES_TNPW0201_VIS
pins: 1, 2

## TPD2E009DBZR
designator U?
Integrated Circuit; Manufacturer_Name: Texas Instruments; Datasheet Link: https://datasheet.datasheetarchive.com/originals/distributors/SFDatasheet-7/sf-000145380.pdf; Height: 1.12mm; Manufacturer_Part_Number: TPD2E009DBZR; Mouser Part Number: 595-TPD2E009DBZR; Mouser Price/Stock: https://www.mouser.co.uk/ProductDetail/Texas-Instruments/TPD2E009DBZR?qs=XGzIaZb%2FFYIsL3UFh35JpQ%3D%3D; Arrow Part Number: TPD2E009DBZR; Arrow Price/Stock: https://www.arrow.com/en/products/tpd2e009dbzr/texas-instruments?region=nac; Supplier 1: Mouser; Supplier Part Number 1: 595-TPD2E009DBZR
footprint SOT95P237X112-3N
pins: 1 D+, 2 D-, 3 GND (power)

## TPS79525DCQR
designator U?
Single Output High PSRR LDO, 500 mA, Fixed 2.5 V Output, 2.7 to 5.5 V Input, 6-pin SOT-223 (DCQ), -40 to 125 degC, Green (RoHS & no Sb/Br); Manufacturer: Texas Instruments; Accuracy(%): 2; Iq(Typ)(mA): 0.26; Vin(Min)(V): 2.7; Vout Adj(Min)(V): 2.5; SubFamily: Single Channel LDO; Vin(Max)(V): 5.5; Rating: Catalog; Iout(Max)(A): 0.5; Vdo(Typ)(mV): 110; Eco-Plan: Green (RoHS & no Sb/Br); PartNumber: TPS79525DCQR; ComponentLink1Description: Manufacturer URL; ComponentLink2Description: Datasheet; DatasheetVersion: SLVS350H; ComponentLink3URL: http://www.ti.com/litv/pdf/mpds098c; Vout Adj(Max)(V): 2.5; ComponentLink1URL: http://www.ti.com/; Fixed Output Options(V): 2.5; ComponentLink2URL: http://www.ti.com/general/docs/lit/getliterature.tsp?genericPartNumber=TPS79525&fileType=pdf; PackageReference: DCQ0006A; ComponentLink3Description: Package Specification; PackageVersion: 4202109/D; Mounting Technology: Surface Mount; PackageDescription: 6-Pin Plastic Small Outline, Body 3.5 x 6.5 mm, Pitch 1.27 mm; Supplier 1: Mouser; Supplier 2: Digi-Key; Supplier 3: Arrow; Supplier Part Number 3: TPS79525DCQR; Supplier Part Number 2: 296-41778-6-ND; Supplier Part Number 1: 595-TPS79525DCQR
footprint DCQ0006A_N (SOT223, 6-Leads, Body 6.55x3.55mm, Pitch 1.27mm, IPC Medium Density)
pins: 1 EN (in) "The EN terminal is an input that enables or shuts down the device. When EN is a logic high, the device is enabled. When the device is a logic low, the device is in shutdown mode.", 2 IN (power) "Unregulated input to the device.", 3 GND (power) "Regulator ground", 4 OUT (power) "Regulator output", 5 NR "Connecting an external capacitor to this pin bypasses noise generated by the internal bandgap, which improves power-supply rejection and reduces output noise.", 6 GND (power) "Regulator ground"

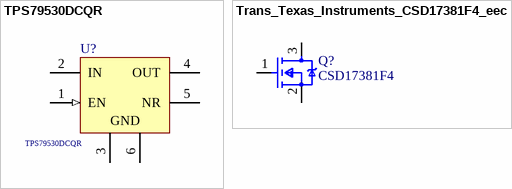
[diagram p5: symbols TPS79530DCQR to Trans_Texas_Instruments_CSD17381F4_eec]

## TPS79530DCQR
designator U?
Single Output High PSRR LDO, 500 mA, Fixed 3 V Output, 2.7 to 5.5 V Input, 6-pin SOT-223 (DCQ), -40 to 125 degC, Green (RoHS & no Sb/Br); Manufacturer: Texas Instruments; Accuracy(%): 2; Iq(Typ)(mA): 0.26; Vin(Min)(V): 2.7; Vout Adj(Min)(V): 3; SubFamily: Single Channel LDO; Vin(Max)(V): 5.5; Rating: Catalog; Iout(Max)(A): 0.5; Vdo(Typ)(mV): 110; Eco-Plan: Green (RoHS & no Sb/Br); PartNumber: TPS79530DCQR; ComponentLink1Description: Manufacturer URL; ComponentLink2Description: Datasheet; DatasheetVersion: SLVS350H; ComponentLink3URL: http://www.ti.com/litv/pdf/mpds098c; Vout Adj(Max)(V): 3; ComponentLink1URL: http://www.ti.com/; Fixed Output Options(V): 3; ComponentLink2URL: http://www.ti.com/general/docs/lit/getliterature.tsp?genericPartNumber=TPS79530&fileType=pdf; ComponentLink3Description: Package Specification; PackageVersion: 4202109/D; Mounting Technology: Surface Mount; PackageReference: DCQ6; PackageDescription: 6-Pin Plastic Small Outline, Body 3.5 x 6.5 mm, Pitch 1.27 mm; Supplier 1: Mouser; Supplier Part Number 1: 595-TPS79530DCQR
footprint TI-DCQ6_N
footprint TI-DCQ6_L
footprint TI-DCQ6_M
pins: 1 EN (in) "The EN terminal is an input that enables or shuts down the device. When EN is a logic high, the device is enabled. When the device is a logic low, the device is in shutdown mode.", 2 IN (power) "Unregulated input to the device.", 3 GND (power) "Regulator ground", 4 OUT (power) "Regulator output", 5 NR "Connecting an external capacitor to this pin bypasses noise generated by the internal bandgap, which improves power-supply rejection and reduces output noise.", 6 GND (power) "Regulator ground"

## Trans_Texas_Instruments_CSD17381F4_eec
designator Q?, comment CSD17381F4
TRANS MOSFET N-CH 30V 3.1A 0402; Manufacturer: Texas Instruments; Mfg Package Ident: 3-PICOSTAR; Part Number: CSD17381F4; helpURL: https://upverter.com/upn/revision/4d3d13666fc1af7c/; ComponentLink2Description: Datasheet; Temperature: -55°C to +150°C; Package: 3-PICOSTAR; Supplier 2: Mouser; Price: 0.201706379017; Supplier 1: Digi-Key; ComponentLink1URL: https://upverter.com/upn/revision/4d3d13666fc1af7c/; Supplier Part Number 2: 595-CSD17381F4; Supplier Part Number 1: 296-38913-1-ND; ComponentLink1Description: Upverter; ComponentLink2URL: http://www.ti.com/lit/ds/symlink/csd17381f4.pdf; RoHS: TRUE; Mouser Part Number: 595-CSD17381F4; Temperature Range High: +150°C; Digikey Description: TRANS MOSFET N-CH 30V 3.1A 0402; Digikey Part Number: 296-38913-1-ND; Lead Free: yes; Temperature Range Low: -55°C
footprint Texas_Instruments_3-PICOSTAR_0
pins: 1 GATE, 2 SOURCE, 3 DRAIN